# EAGLE library part RN8 (library magzor-resistor)
-4816P-1: Bourns 4800-series
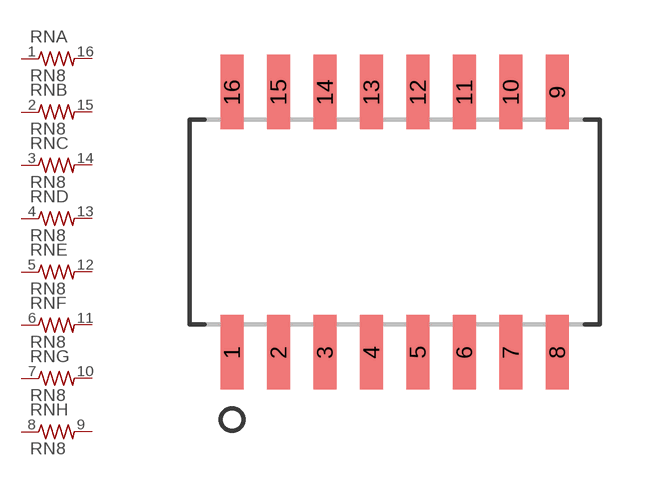
[diagram p0: symbol with the pads of SOM16; footprint SOM16]

Designator prefix RN; gates A=R-US_PAD B=R-US_PAD C=R-US_PAD D=R-US_PAD E=R-US_PAD F=R-US_PAD G=R-US_PAD H=R-US_PAD

## RN8-4816P-1  [SOM16]
1  A:1  pas
2  B:1  pas
3  C:1  pas
4  D:1  pas
5  E:1  pas
6  F:1  pas
7  G:1  pas
8  H:1  pas
9  H:2  pas
10  G:2  pas
11  F:2  pas
12  E:2  pas
13  D:2  pas
14  C:2  pas
15  B:2  pas
16  A:2  pas

## Footprint SOM16 (pad centres in mm)
Used for Bourns 4800 series resistor networks (and maybe other devices?)
smd 0.635 x 2.032: 1 -4.445,-3.556; 2 -3.175,-3.556; 3 -1.905,-3.556; 4 -0.635,-3.556; 5 0.635,-3.556; 6 1.905,-3.556; 7 3.175,-3.556; 8 4.445,-3.556; 9 4.445,3.556; 10 3.175,3.556; 11 1.905,3.556; 12 0.635,3.556; 13 -0.635,3.556; 14 -1.905,3.556; 15 -3.175,3.556; 16 -4.445,3.556